# Altium footprint library LSS-150-XX-XX-DV-A.PcbLib: 1 footprints
Each footprint in its own frame and in the unit in brackets; x right, y up, seen from the top. Pads: shape width x height; smd on the part's side, far side on the other; paste and mask are expansions set on the pad; w line width, h text height; cw(c..) or ccw(c..) is an arc to the next point about the centre after c.
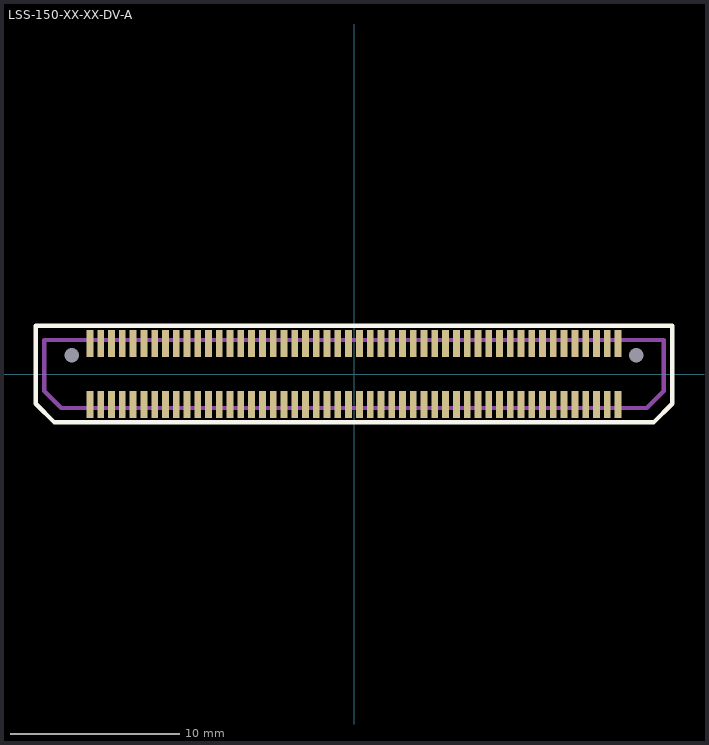
[diagram p0: the footprint, top view; thin cyan lines are the x and y axes]

## LSS-150-XX-XX-DV-A [mm]
pads (102):
  rect 0.4x1.6 smd: 1(15.557,-1.8) 2(15.557,1.8) 3(14.922,-1.8) 4(14.922,1.8) 5(14.287,-1.8) 6(14.287,1.8) 7(13.652,-1.8) 8(13.652,1.8) 9(13.018,-1.8) 10(13.018,1.8) 11(12.383,-1.8) 12(12.383,1.8) 13(11.747,-1.8) 14(11.747,1.8) 15(11.112,-1.8) 16(11.112,1.8) 17(10.477,-1.8) 18(10.477,1.8) 19(9.842,-1.8) 20(9.842,1.8) 21(9.207,-1.8) 22(9.207,1.8) 23(8.572,-1.8) 24(8.572,1.8) 25(7.938,-1.8) 26(7.938,1.8) 27(7.302,-1.8) 28(7.302,1.8) 29(6.667,-1.8) 30(6.667,1.8) 31(6.032,-1.8) 32(6.032,1.8) 33(5.397,-1.8) 34(5.397,1.8) 35(4.763,-1.8) 36(4.763,1.8) 37(4.127,-1.8) 38(4.127,1.8) 39(3.492,-1.8) 40(3.492,1.8) 41(2.857,-1.8) 42(2.857,1.8) 43(2.222,-1.8) 44(2.222,1.8) 45(1.587,-1.8) 46(1.587,1.8) 47(0.953,-1.8) 48(0.953,1.8) 49(0.318,-1.8) 50(0.318,1.8) 51(-0.318,-1.8) 52(-0.318,1.8) 53(-0.953,-1.8) 54(-0.953,1.8) 55(-1.587,-1.8) 56(-1.587,1.8) 57(-2.222,-1.8) 58(-2.222,1.8) 59(-2.857,-1.8) 60(-2.857,1.8) 61(-3.492,-1.8) 62(-3.492,1.8) 63(-4.127,-1.8) 64(-4.127,1.8) 65(-4.763,-1.8) 66(-4.763,1.8) 67(-5.397,-1.8) 68(-5.397,1.8) 69(-6.032,-1.8) 70(-6.032,1.8) 71(-6.667,-1.8) 72(-6.667,1.8) 73(-7.302,-1.8) 74(-7.302,1.8) 75(-7.938,-1.8) 76(-7.938,1.8) 77(-8.572,-1.8) 78(-8.572,1.8) 79(-9.207,-1.8) 80(-9.207,1.8) 81(-9.842,-1.8) 82(-9.842,1.8) 83(-10.477,-1.8) 84(-10.477,1.8) 85(-11.112,-1.8) 86(-11.112,1.8) 87(-11.747,-1.8) 88(-11.747,1.8) 89(-12.383,-1.8) 90(-12.383,1.8) 91(-13.018,-1.8) 92(-13.018,1.8) 93(-13.652,-1.8) 94(-13.652,1.8) 95(-14.287,-1.8) 96(-14.287,1.8) 97(-14.922,-1.8) 98(-14.922,1.8) 99(-15.557,-1.8) 100(-15.557,1.8)
  round 0.2 hole 0.85 unplated: 101(16.625,1.1) 102(-16.625,1.1)
Top Overlay:
  lines w0.254: -18.75,-1.75 -18.75,2.85 18.75,2.85 18.75,-1.75 17.65,-2.85 -17.65,-2.85 -18.75,-1.75
Mechanical 1:
  lines w0.254: -18.25,-1 -18.25,2 18.25,2 18.25,-1 17.25,-2 -17.25,-2 -18.25,-1
  text "J1" at -0.446,-0.457 h0.76